# EAGLE library part INA213AIDCKT (library current_monitor)
BIDIRECTIONAL CURRENT SHUNT MONITOR
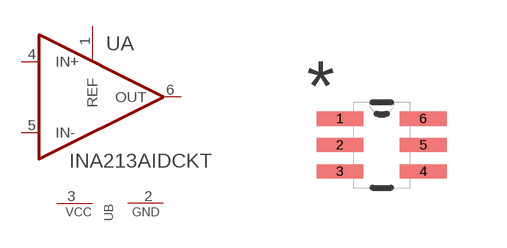
[diagram p0: symbol with the pads of SOT65P210X110-6N; footprint SOT65P210X110-6N]

Designator prefix U; gates A=INA213AIDCKT B=PWR

## INA213AIDCKT (MPN: INA213AIDCKT; OC_FARNELL: 1754261; OC_NEWARK: 05N1040; PACKAGE: SC-70-6; SUPPLIER: Texas Instruments)  [SOT65P210X110-6N]
1  A:REF  in
2  B:GND  pwr
3  B:VCC  pwr
4  A:IN+  in
5  A:IN-  in
6  A:OUT  out

## Footprint SOT65P210X110-6N (pad centres in mm)
smd 1.168 x 0.356: 1 -1.041,0.66; 2 -1.041,0; 3 -1.041,-0.66; 4 1.041,-0.66; 5 1.041,0; 6 1.041,0.66